# Altium footprint library E104-BT5010A-V1.0.PcbLib: 1 footprints
Each footprint in its own frame and in the unit in brackets; x right, y up, seen from the top. Pads: shape width x height; smd on the part's side, far side on the other; paste and mask are expansions set on the pad; w line width, h text height; cw(c..) or ccw(c..) is an arc to the next point about the centre after c.
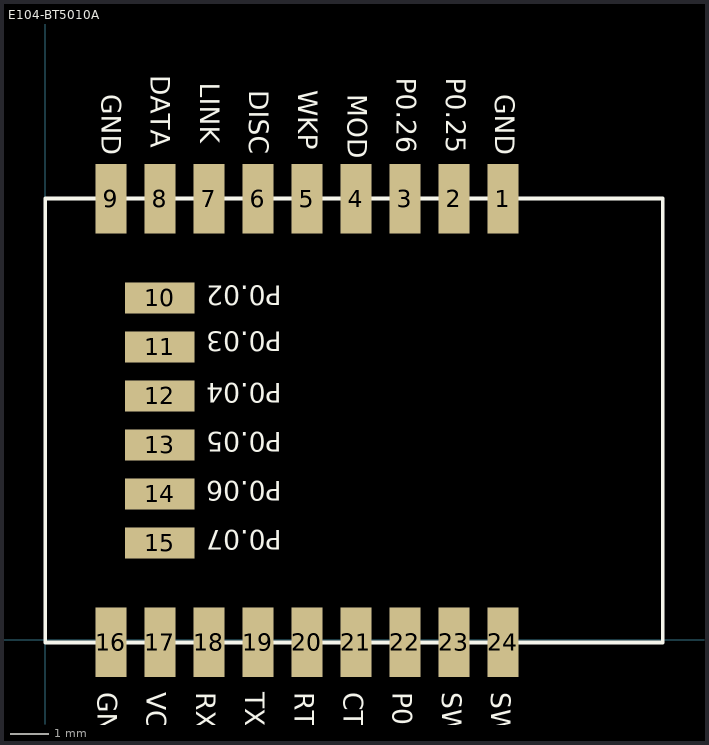
[diagram p0: the footprint, top view; thin cyan lines are the x and y axes]

## E104-BT5010A [mm]
pads (24):
  rect 0.8x1.8 smd: 1(11.86,11.43) 2(10.59,11.43) 3(9.32,11.43) 4(8.05,11.43) 5(6.78,11.43) 6(5.51,11.43) 7(4.24,11.43) 8(2.97,11.43) 9(1.7,11.43) 16(1.7,-0.07) 17(2.97,-0.07) 18(4.24,-0.07) 19(5.51,-0.07) 20(6.78,-0.07) 21(8.05,-0.07) 22(9.32,-0.07) 23(10.59,-0.07) 24(11.86,-0.07)
  rect 1.8x0.8 smd: 10(2.97,8.855) 11(2.97,7.585) 12(2.97,6.315) 13(2.97,5.045) 14(2.97,3.775) 15(2.97,2.505)
Top Overlay:
  lines w0.1: 0,-0.07 16,-0.07 16,11.43 0,11.43 0,-0.07
  text "GND" at 11.66,14.139 h0.5
  text "P0.25" at 10.385,14.567 h0.5
  text "P0.26" at 9.11,14.567 h0.5
  text "MOD" at 7.835,14.139 h0.5
  text "WKP" at 6.56,14.242 h0.5
  text "DISC" at 5.285,14.236 h0.5
  text "LINK" at 4.01,14.427 h0.5
  text "DATA" at 2.735,14.63 h0.5
  text "VCC" at 2.635,-1.361 h0.5
  text "RXD" at 3.91,-1.361 h0.5
  text "TXD" at 5.185,-1.361 h0.5
  text "RTS" at 6.46,-1.361 h0.5
  text "CTS" at 7.735,-1.361 h0.5
  text "P0.21/RST" at 9.01,-1.361 h0.5
  text "SWDCLK" at 10.285,-1.361 h0.5
  text "SWDIO" at 11.56,-1.361 h0.5
  text "P0.07" at 6.123,2.835 h0.5
  text "P0.05" at 6.123,5.375 h0.5
  text "P0.04" at 6.123,6.645 h0.5
  text "P0.02" at 6.123,9.174 h0.5
  text "P0.06" at 6.123,4.105 h0.5
  text "P0.03" at 6.123,7.976 h0.5
  text "GND" at 1.46,14.139 h0.5
  text "GND" at 1.36,-1.361 h0.5